# Altium schematic symbol library BC847BDW1T1G.SchLib: 1 symbol
Pins are listed as number, name and electrical type; pins without a type are passive.

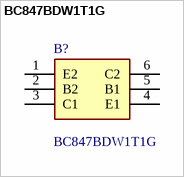
[diagram p0: symbol BC847BDW1T1G]

## BC847BDW1T1G
designator B?
Device Marking: BC846BDW1T1 = 1B BC847BDW1T1 = 1F BC847CDW1T1 = 1G BC848BDW1T1 = 1K BC848CDW1T1 = 1L; These Devices are Pb-Free, Halogen Free/BFR Free and are RoHS Compliant; S and NSV Prefix for Automotive and Other Applications Requiring Unique Site and Control Change Requirements; AECQ101 Qualified and PPAP Capable; Manufacturer_Name: onsemi; Geometry.Height: 1.1mm; Mouser Part Number: 863-BC847BDW1T1G; Mouser Price/Stock: https://www.mouser.co.uk/ProductDetail/onsemi/BC847BDW1T1G?qs=vNc2DXHODiJIIkxW3oEo4A%3D%3D; Manufacturer_Part_Number: BC847BDW1T1G; Datasheet Link: https://www.onsemi.com/pub/Collateral/BC846BDW1T1-D.PDF
footprint SOT65P210X110-6N
pins: 1 E2, 2 B2, 3 C1, 4 E1, 5 B1, 6 C2